# Altium footprint library Res2010.PcbLib: 1 footprints
Each footprint in its own frame and in the unit in brackets; x right, y up, seen from the top. Pads: shape width x height; smd on the part's side, far side on the other; paste and mask are expansions set on the pad; w line width, h text height; cw(c..) or ccw(c..) is an arc to the next point about the centre after c.
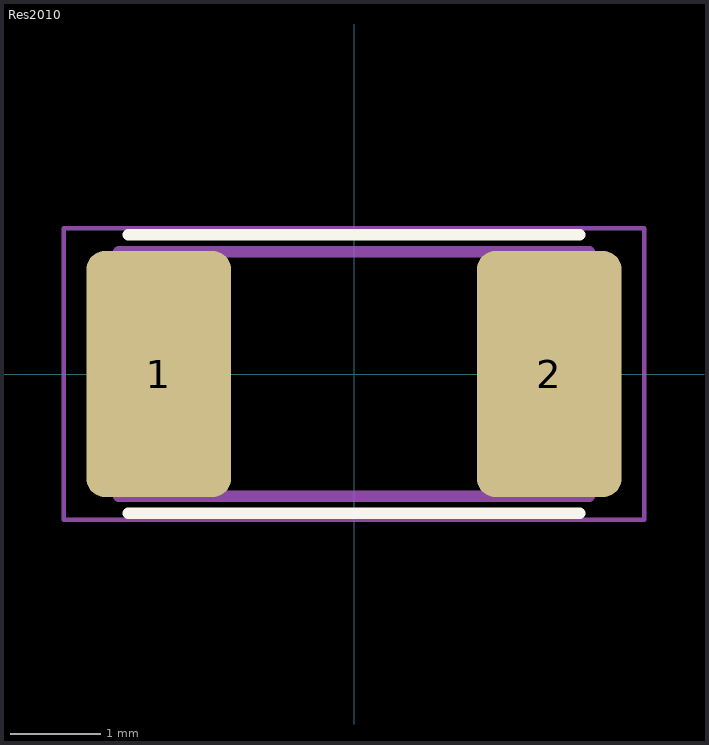
[diagram p0: the footprint, top view; thin cyan lines are the x and y axes]

## Res2010 [mm]
pads (2):
  rrect25% 1.6x2.72 smd: 1(-2.16,0) 2(2.16,0)
Top Overlay:
  lines w0.127: -2.5,-1.54 2.5,-1.54 ; -2.5,1.54 2.5,1.54
Mechanical 13:
  lines w0.127: -2.6,-1.35 -2.6,1.35 2.6,1.35 2.6,-1.35 -2.6,-1.35
Mechanical 15:
  lines w0.05: -3.21,-1.61 -3.21,1.61 3.21,1.61 3.21,-1.61 -3.21,-1.61
3D body "3-1879464-2.STEP": height 0.65, standoff 0, extent -2.538,-1.285 2.462,1.215